# EAGLE library part 5559ИН13 (library transceivers)
АЕЯР.431230.591 ТУ 5559ИН13У представляет собой приемопередатчик, предназначенный для построения устройств интерфейса по ГОСТ Р 52070-2003. Производитель: ОАО «НПО «Физика». Технические условия: АЕЯР.431230.591 ТУ
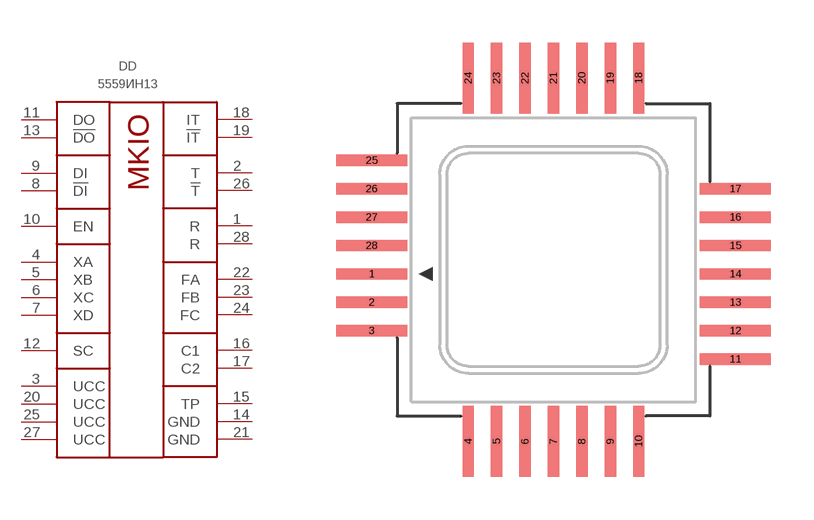
[diagram p0: symbol with the pads of Н09.28-1В; footprint Н09.28-1В]

Designator prefix DD

## 5559ИН13У  [Н09.28-1В]
1  R
2  T
3  UCC  pwr
4  XA
5  XB
6  XC
7  XD
8  !DI
9  DI
10  EN
11  DO
12  SC
13  !DO
14  GND  pwr
15  TP
16  C1
17  C2
18  IT
19  !IT
20  UCC  pwr
21  GND  pwr
22  FA
23  FB
24  FC
25  UCC  pwr
26  !T
27  UCC  pwr
28  R

## Footprint Н09.28-1В (pad centres in mm)
smd 2.5 x 0.4: 1 -6.4,-0.5; 2 -6.4,-1.5; 3 -6.4,-2.5; 11 6.4,-3.5; 12 6.4,-2.5; 13 6.4,-1.5; 14 6.4,-0.5; 15 6.4,0.5; 16 6.4,1.5; 17 6.4,2.5; 25 -6.4,3.5; 26 -6.4,2.5; 27 -6.4,1.5; 28 -6.4,0.5
smd 0.4 x 2.5: 4 -3,-6.4; 5 -2,-6.4; 6 -1,-6.4; 7 0,-6.4; 8 1,-6.4; 9 2,-6.4; 10 3,-6.4; 18 3,6.4; 19 2,6.4; 20 1,6.4; 21 0,6.4; 22 -1,6.4; 23 -2,6.4; 24 -3,6.4